# Altium footprint library Pcblibv2.PcbLib: 96 footprints (part 3 of 6)
Each footprint in its own frame and in the unit in brackets; x right, y up, seen from the top. Pads: shape width x height; smd on the part's side, far side on the other; paste and mask are expansions set on the pad; w line width, h text height; cw(c..) or ccw(c..) is an arc to the next point about the centre after c.
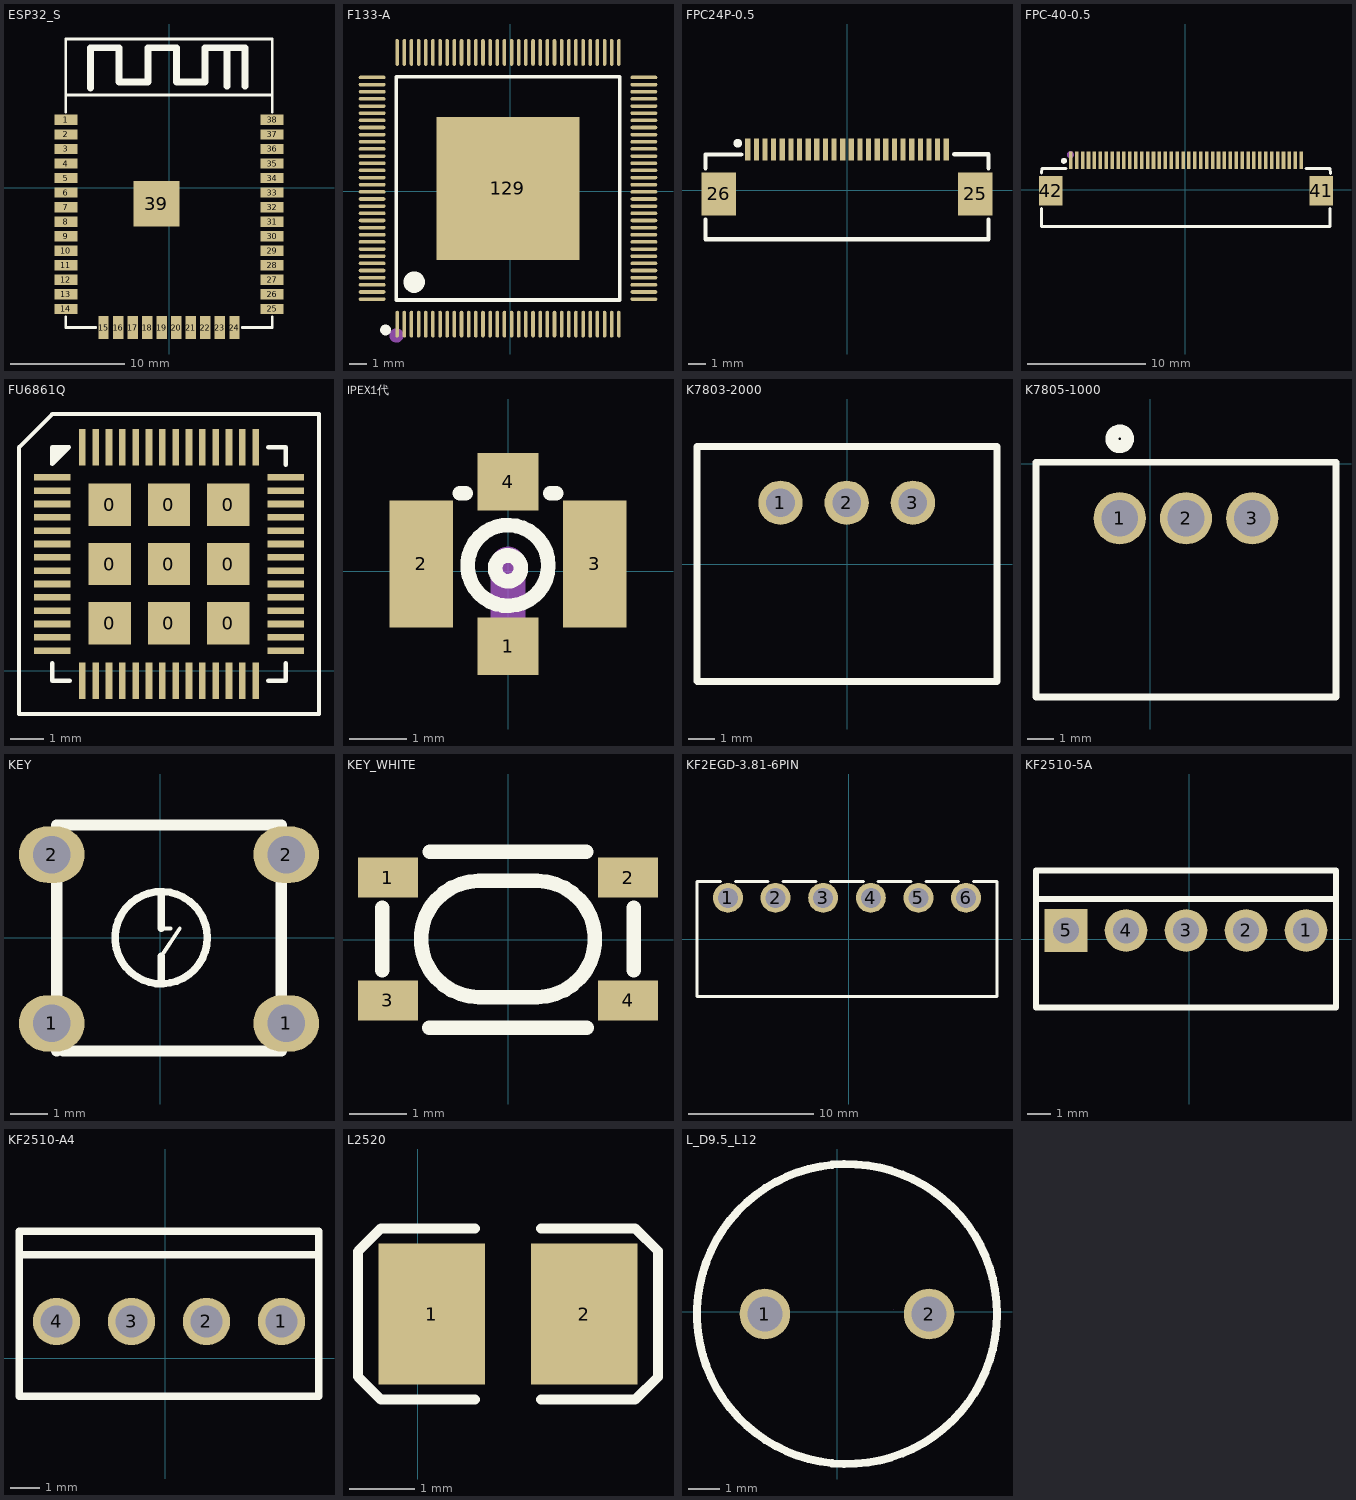
[diagram p2: the footprints below, top view; thin cyan lines are the x and y axes]

## ESP32_S [mm]
pads (39):
  rect 2x0.9 smd: 1(-9,5.925) 2(-9,4.655) 3(-9,3.385) 4(-9,2.115) 5(-9,0.845) 6(-9,-0.425) 7(-9,-1.695) 8(-9,-2.965) 9(-9,-4.235) 10(-9,-5.505) 11(-9,-6.775) 12(-9,-8.045) 13(-9,-9.315) 14(-9,-10.585) 25(9,-10.585) 26(9,-9.315) 27(9,-8.045) 28(9,-6.775) 29(9,-5.505) 30(9,-4.235) 31(9,-2.965) 32(9,-1.695) 33(9,-0.425) 34(9,0.845) 35(9,2.115) 36(9,3.385) 37(9,4.655) 38(9,5.925)
  rect 0.9x2 smd: 15(-5.715,-12.211) 16(-4.445,-12.211) 17(-3.175,-12.211) 18(-1.905,-12.211) 19(-0.635,-12.211) 20(0.635,-12.211) 21(1.905,-12.211) 22(3.175,-12.211) 23(4.445,-12.211) 24(5.715,-12.211)
  rect 4x4 smd: 39(-1.1,-1.392)
Top Overlay:
  lines w0.254: -9.017,-11.267 -9.017,-12.211 -6.396,-12.212 ; -9.017,6.606 -9.017,12.989 9.017,12.989 9.017,6.606 ; -9.017,8.089 9.017,8.089 ; 6.396,-12.211 9.017,-12.211 9.017,-11.267
  lines w0.6: -6.85,8.724 -6.85,12.224 -4.35,12.224 ; -4.351,12.224 -4.351,9.224 -1.849,9.224 -1.849,12.224 0.65,12.224 0.65,9.224 3.149,9.224 3.149,12.224 6.65,12.224 6.65,8.857 ; 5.08,8.857 5.08,12.224

## F133-A [mm]
pads (129):
  oval 0.2x1.5 smd: 1(-6.33,-7.435) 2(-5.93,-7.435) 3(-5.53,-7.435) 4(-5.13,-7.435) 5(-4.73,-7.435) 6(-4.33,-7.435) 7(-3.929,-7.435) 8(-3.53,-7.435) 9(-3.129,-7.435) 10(-2.73,-7.435) 11(-2.329,-7.435) 12(-1.93,-7.435) 13(-1.529,-7.435) 14(-1.13,-7.435) 15(-0.73,-7.435) 16(-0.33,-7.435) 17(0.07,-7.435) 18(0.47,-7.435) 19(0.87,-7.435) 20(1.27,-7.435) 21(1.67,-7.435) 22(2.07,-7.435) 23(2.47,-7.435) 24(2.87,-7.435) 25(3.27,-7.435) 26(3.67,-7.435) 27(4.07,-7.435) 28(4.47,-7.435) 29(4.87,-7.435) 30(5.271,-7.435) 31(5.67,-7.435) 32(6.071,-7.435) 65(6.071,7.764) 66(5.671,7.764) 67(5.271,7.764) 68(4.87,7.764) 69(4.47,7.764) 70(4.07,7.764) 71(3.67,7.764) 72(3.271,7.764) 73(2.87,7.764) 74(2.47,7.764) 75(2.07,7.764) 76(1.671,7.764) 77(1.27,7.764) 78(0.87,7.764) 79(0.47,7.764) 80(0.07,7.764) 81(-0.329,7.764) 82(-0.729,7.764) 83(-1.13,7.764) 84(-1.529,7.764) 85(-1.93,7.764) 86(-2.329,7.764) 87(-2.729,7.764) 88(-3.129,7.764) 89(-3.53,7.764) 90(-3.929,7.764) 91(-4.329,7.764) 92(-4.729,7.764) 93(-5.13,7.764) 94(-5.53,7.764) 95(-5.93,7.764) 96(-6.33,7.764)
  oval 1.5x0.2 smd: 33(7.47,-6.036) 34(7.47,-5.635) 35(7.47,-5.235) 36(7.47,-4.835) 37(7.47,-4.435) 38(7.47,-4.035) 39(7.47,-3.635) 40(7.47,-3.235) 41(7.47,-2.835) 42(7.47,-2.435) 43(7.47,-2.035) 44(7.47,-1.635) 45(7.47,-1.235) 46(7.47,-0.835) 47(7.47,-0.435) 48(7.47,-0.035) 49(7.47,0.365) 50(7.47,0.765) 51(7.47,1.165) 52(7.47,1.564) 53(7.47,1.965) 54(7.47,2.364) 55(7.47,2.765) 56(7.47,3.164) 57(7.47,3.565) 58(7.47,3.964) 59(7.47,4.365) 60(7.47,4.765) 61(7.47,5.165) 62(7.47,5.565) 63(7.47,5.965) 64(7.47,6.365) 97(-7.729,6.365) 98(-7.729,5.965) 99(-7.729,5.565) 100(-7.729,5.165) 101(-7.729,4.765) 102(-7.729,4.365) 103(-7.729,3.964) 104(-7.729,3.565) 105(-7.729,3.164) 106(-7.729,2.765) 107(-7.729,2.364) 108(-7.729,1.965) 109(-7.729,1.564) 110(-7.729,1.165) 111(-7.729,0.765) 112(-7.729,0.365) 113(-7.729,-0.035) 114(-7.729,-0.435) 115(-7.729,-0.835) 116(-7.729,-1.235) 117(-7.729,-1.635) 118(-7.729,-2.035) 119(-7.729,-2.435) 120(-7.729,-2.835) 121(-7.729,-3.235) 122(-7.729,-3.635) 123(-7.729,-4.035) 124(-7.729,-4.435) 125(-7.729,-4.835) 126(-7.729,-5.235) 127(-7.729,-5.635) 128(-7.729,-6.036)
  rect 8x8 smd: 129(-0.13,0.165)
Top Overlay:
  lines w0.2: -6.379,-6.085 -6.379,6.415 6.12,6.415 6.12,-6.085 -6.379,-6.085
  lines w0.3: -6.98,-7.61 ccw(c-6.979,-7.76) -6.977,-7.61
  lines w0.6: -5.38,-4.786 ccw(c-5.377,-5.086) -5.375,-4.786
Mechanical 15:
  circle w0.4: c-6.37,-8.065 r0.2

## FPC24P-0.5 [mm]
pads (26):
  rect 0.3x1.25 smd: 1(-5.75,2.351) 2(-5.25,2.351) 3(-4.75,2.351) 4(-4.25,2.351) 5(-3.75,2.351) 6(-3.25,2.351) 7(-2.75,2.351) 8(-2.25,2.351) 9(-1.75,2.351) 10(-1.25,2.351) 11(-0.75,2.351) 12(-0.25,2.351) 13(0.25,2.351) 14(0.75,2.351) 15(1.25,2.351) 16(1.75,2.351) 17(2.25,2.351) 18(2.75,2.351) 19(3.25,2.351) 20(3.75,2.351) 21(4.25,2.351) 22(4.75,2.351) 23(5.25,2.351) 24(5.75,2.351)
  rect 2x2.5 smd: 25(7.44,-0.224) 26(-7.44,-0.224)
Top Overlay:
  circle w0.254: c-6.327,2.714 r0.127
  lines w0.254: -8.2,-1.705 -8.2,-2.849 8.2,-2.849 8.2,-1.705 ; -8.2,1.257 -8.2,2.063 -6.131,2.063 ; 6.223,2.079 8.2,2.079 8.2,1.257

## FPC-40-0.5 [mm] "C2856812"
pads (42):
  rect 0.3x1.5 smd: 1(-9.704,2.485) 2(-9.204,2.485) 3(-8.704,2.485) 4(-8.204,2.485) 5(-7.704,2.485) 6(-7.204,2.485) 7(-6.704,2.485) 8(-6.204,2.485) 9(-5.704,2.485) 10(-5.204,2.485) 11(-4.704,2.485) 12(-4.204,2.485) 13(-3.704,2.485) 14(-3.204,2.485) 15(-2.704,2.485) 16(-2.204,2.485) 17(-1.704,2.485) 18(-1.204,2.485) 19(-0.704,2.485) 20(-0.204,2.485) 21(0.296,2.485) 22(0.796,2.485) 23(1.296,2.485) 24(1.796,2.485) 25(2.296,2.485) 26(2.796,2.485) 27(3.296,2.485) 28(3.796,2.485) 29(4.296,2.485) 30(4.796,2.485) 31(5.296,2.485) 32(5.796,2.485) 33(6.296,2.485) 34(6.796,2.485) 35(7.296,2.485) 36(7.796,2.485) 37(8.296,2.485) 38(8.796,2.485) 39(9.296,2.485) 40(9.796,2.485)
  rect 2x2.5 smd: 41(11.486,-0.09) 42(-11.394,-0.09)
Top Overlay:
  circle w0.254: c-10.281,2.437 r0.127
  lines w0.254: -12.183,-3.133 -12.183,-1.597 ; -12.167,1.411 -12.154,1.786 -10.085,1.786 ; -12.154,-3.126 12.246,-3.126 ; 10.177,1.802 12.246,1.802 12.255,1.351 ; 12.212,-3.133 12.219,-1.595
Mechanical 15:
  circle w0.3: c-9.733,2.945 r0.15

## FPC_28PIN_0.5 [mm]

## FU6861Q [mm]
pads (65):
  rect 1.27x1.27 smd: 0(10.336,1.424) 0(10.336,3.202) 0(10.336,4.98) 0(12.114,1.424) 0(12.114,3.202) 0(12.114,4.98) 0(13.892,1.424) 0(13.892,3.202) 0(13.892,4.98)
  rect 1.1x0.2 smd: 1(8.614,5.802) 2(8.614,5.402) 3(8.614,5.002) 4(8.614,4.602) 5(8.614,4.202) 6(8.614,3.802) 7(8.614,3.402) 8(8.614,3.002) 9(8.614,2.602) 10(8.614,2.202) 11(8.614,1.802) 12(8.614,1.402) 13(8.614,1.002) 14(8.614,0.602) 29(15.614,0.602) 30(15.614,1.002) 31(15.614,1.402) 32(15.614,1.802) 33(15.614,2.202) 34(15.614,2.602) 35(15.614,3.002) 36(15.614,3.402) 37(15.614,3.802) 38(15.614,4.202) 39(15.614,4.602) 40(15.614,5.002) 41(15.614,5.402) 42(15.614,5.802)
  rect 0.2x1.1 smd: 15(9.514,-0.298) 16(9.914,-0.298) 17(10.314,-0.298) 18(10.714,-0.298) 19(11.114,-0.298) 20(11.514,-0.298) 21(11.914,-0.298) 22(12.314,-0.298) 23(12.714,-0.298) 24(13.114,-0.298) 25(13.514,-0.298) 26(13.914,-0.298) 27(14.314,-0.298) 28(14.714,-0.298) 43(14.714,6.702) 44(14.314,6.702) 45(13.914,6.702) 46(13.514,6.702) 47(13.114,6.702) 48(12.714,6.702) 49(12.314,6.702) 50(11.914,6.702) 51(11.514,6.702) 52(11.114,6.702) 53(10.714,6.702) 54(10.314,6.702) 55(9.914,6.702) 56(9.514,6.702)
Top Overlay:
  rectangle: 8.634,6.336 8.834,6.486
  rectangle: 8.664,6.49 8.927,6.602
  rectangle: 8.664,6.549 8.967,6.671
  lines w0.127: 9.139,-0.298 8.614,-0.298 ; 15.089,-0.298 15.614,-0.298 ; 15.614,6.177 15.614,6.702 ; 8.614,-0.298 8.614,0.227 8.614,-0.298 ; 15.614,-0.298 15.614,0.227 15.614,-0.298 ; 15.614,6.702 15.089,6.702 15.614,6.702 ; 7.614,-1.298 16.614,-1.298 16.614,7.702 8.614,7.702 7.614,6.702 7.614,-1.298 ; 8.614,6.202 9.114,6.702 8.614,6.702 8.614,6.202

## IPEX1代 [mm]
pads (4):
  rect 1.05x1 smd: 1(-0.002,-1.298) 4(-0.002,1.552)
  rect 1.1x2.2 smd: 2(-1.503,0.127) 3(1.497,0.127)
Top Overlay:
  circle w0.254: c-0.003,0.052 r0.224
  circle w0.254: c-0.003,0.102 r0.7
  lines w0.254: -0.839,1.352 -0.734,1.352 ; 0.729,1.352 0.834,1.352
Mechanical 15:
  circle w0.3: c-0.003,0.127 r0.15
  circle w0.2: c-0.303,-1.498 r0.1
  region: 0.297,-0.873 0.297,0.127 -0.303,0.127 -0.303,-0.873

## K7803-2000 [mm]
pads (3):
  round 1.7 hole 1.1: 1(-2.553,2.349) 2(-0.013,2.349) 3(2.527,2.349)
Top Overlay:
  lines w0.254: -5.753,-4.491 -5.753,4.508 ; -5.748,-4.508 5.753,-4.508 ; -5.747,4.508 5.753,4.508 5.753,-4.491

## K7805-1000 [mm]
pads (3):
  round 2 hole 1.4: 1(-1.168,-2.097) 2(1.372,-2.097) 3(3.912,-2.097)
Top Overlay:
  circle w0.5: c-1.168,0.951 r0.3
  lines w0.254: -4.378,-8.947 7.122,-8.947 7.122,0.053 -4.378,0.053 -4.378,-8.947

## KEY [mil] "鸿源"
pads (4):
  oval 70x60 hole 40: 1(-115.73,-91.39) 1(134.27,-91.39) 2(-115.73,88.61) 2(134.27,88.61)
Top Overlay:
  circle w8: c1,0 r49.21
  lines w4: 1,-19.68 20.68,9.84 ; 1,9.84 10.84,9.84
  lines w8: 1,-49.21 1,-19.68 ; 1,9.84 1,49.21
  lines w12: -110.42,-120.87 -110.42,120.08 128.95,120.08 128.95,-120.87 -103.53,-120.87

## KEY_WHITE [mm]
pads (4):
  rect 1.05x0.7 smd: 1(-2.1,1.088) 2(2.1,1.088) 3(-2.1,-1.062) 4(2.1,-1.062)
Top Overlay:
  lines w0.254: -2.2,-0.531 -2.2,0.557 ; -1.381,-1.537 1.381,-1.537 ; -1.366,1.537 1.366,1.537 ; 2.2,-0.531 2.2,0.557 ; -0.508,-1.003 cw(c-0.508,0.013) -0.508,1.029 0.508,1.029 cw(c0.508,0.013) 0.508,-1.003 -0.508,-1.003

## KF2EGD-3.81-6PIN [mm]
pads (6):
  round 2.4 hole 1.6: 1(-9.652,3.3) 2(-5.842,3.3) 3(-2.032,3.3) 4(1.778,3.3) 5(5.588,3.3) 6(9.398,3.3)
Top Overlay:
  lines w0.254: -10.247,4.6 -12.127,4.6 -12.127,-4.6 11.873,-4.6 11.873,4.6 9.993,4.6 ; -9.057,4.6 -6.437,4.6 ; -5.247,4.6 -2.627,4.6 ; -1.437,4.6 1.183,4.6 ; 2.373,4.6 4.993,4.6 ; 6.183,4.6 8.803,4.6

## KF2510-5A [mm]
pads (5):
  round 1.8 hole 1.1: 1(4.953,0.36) 2(2.413,0.36) 3(-0.127,0.36) 4(-2.667,0.36)
  rect 1.8x1.8 hole 1.1: 5(-5.207,0.36)
Top Overlay:
  lines w0.254: -6.477,1.7 6.223,1.7 ; -6.477,-2.9 -6.477,2.9 6.223,2.9 6.223,-2.9 -6.477,-2.9

## KF2510-A4 [mm]
pads (4):
  round 1.6 hole 1.1: 1(3.937,1.245) 2(1.397,1.245) 3(-1.143,1.245) 4(-3.683,1.245)
Top Overlay:
  lines w0.254: -4.928,3.505 5.08,3.505 ; -4.953,-1.295 5.207,-1.295 5.207,4.293 -4.953,4.293 -4.953,-0.025 -4.953,-1.295

## L2520 [mm] "电感"
pads (2):
  rect 1.635x2.16 smd: 1(0.212,-6.967) 2(2.547,-6.967)
Top Overlay:
  lines w0.152: 0.871,-8.275 -0.569,-8.275 -0.917,-7.927 -0.917,-6.007 -0.569,-5.659 0.871,-5.659 ; 1.887,-8.275 3.327,-8.275 3.675,-7.93 3.675,-6.005 3.327,-5.659 1.887,-5.659
Top Paste:
  region: 1.694,-7.947 1.694,-7.434 1.794,-7.334 2.185,-7.334 2.285,-7.234 2.285,-6.7 2.185,-6.6 1.794,-6.6 1.694,-6.5 1.694,-5.987 1.794,-5.887 3.264,-5.887 3.364,-5.987 3.364,-7.947 3.264,-8.047 1.794,-8.047
  region: 1.064,-7.947 1.064,-7.434 0.964,-7.334 0.573,-7.334 0.473,-7.234 0.473,-6.7 0.573,-6.6 0.964,-6.6 1.064,-6.5 1.064,-5.987 0.964,-5.887 -0.506,-5.887 -0.606,-5.987 -0.606,-7.947 -0.506,-8.047 0.964,-8.047

## L_D9.5_L12 [mm]
pads (2):
  round 1.6 hole 1.1 paste+0 mask+0.051: 1(-2.295,-0.076) 2(2.905,-0.076)
Top Overlay:
  circle w0.254: c0.305,-0.076 r4.75
Mechanical 15:
  lines w0.003: 1.765,0.051 1.766,0.051